# Altium footprint library thermostat.PcbLib: 112 footprints (part 1 of 7)
Each footprint in its own frame and in the unit in brackets; x right, y up, seen from the top. Pads: shape width x height; smd on the part's side, far side on the other; paste and mask are expansions set on the pad; w line width, h text height; cw(c..) or ccw(c..) is an arc to the next point about the centre after c.
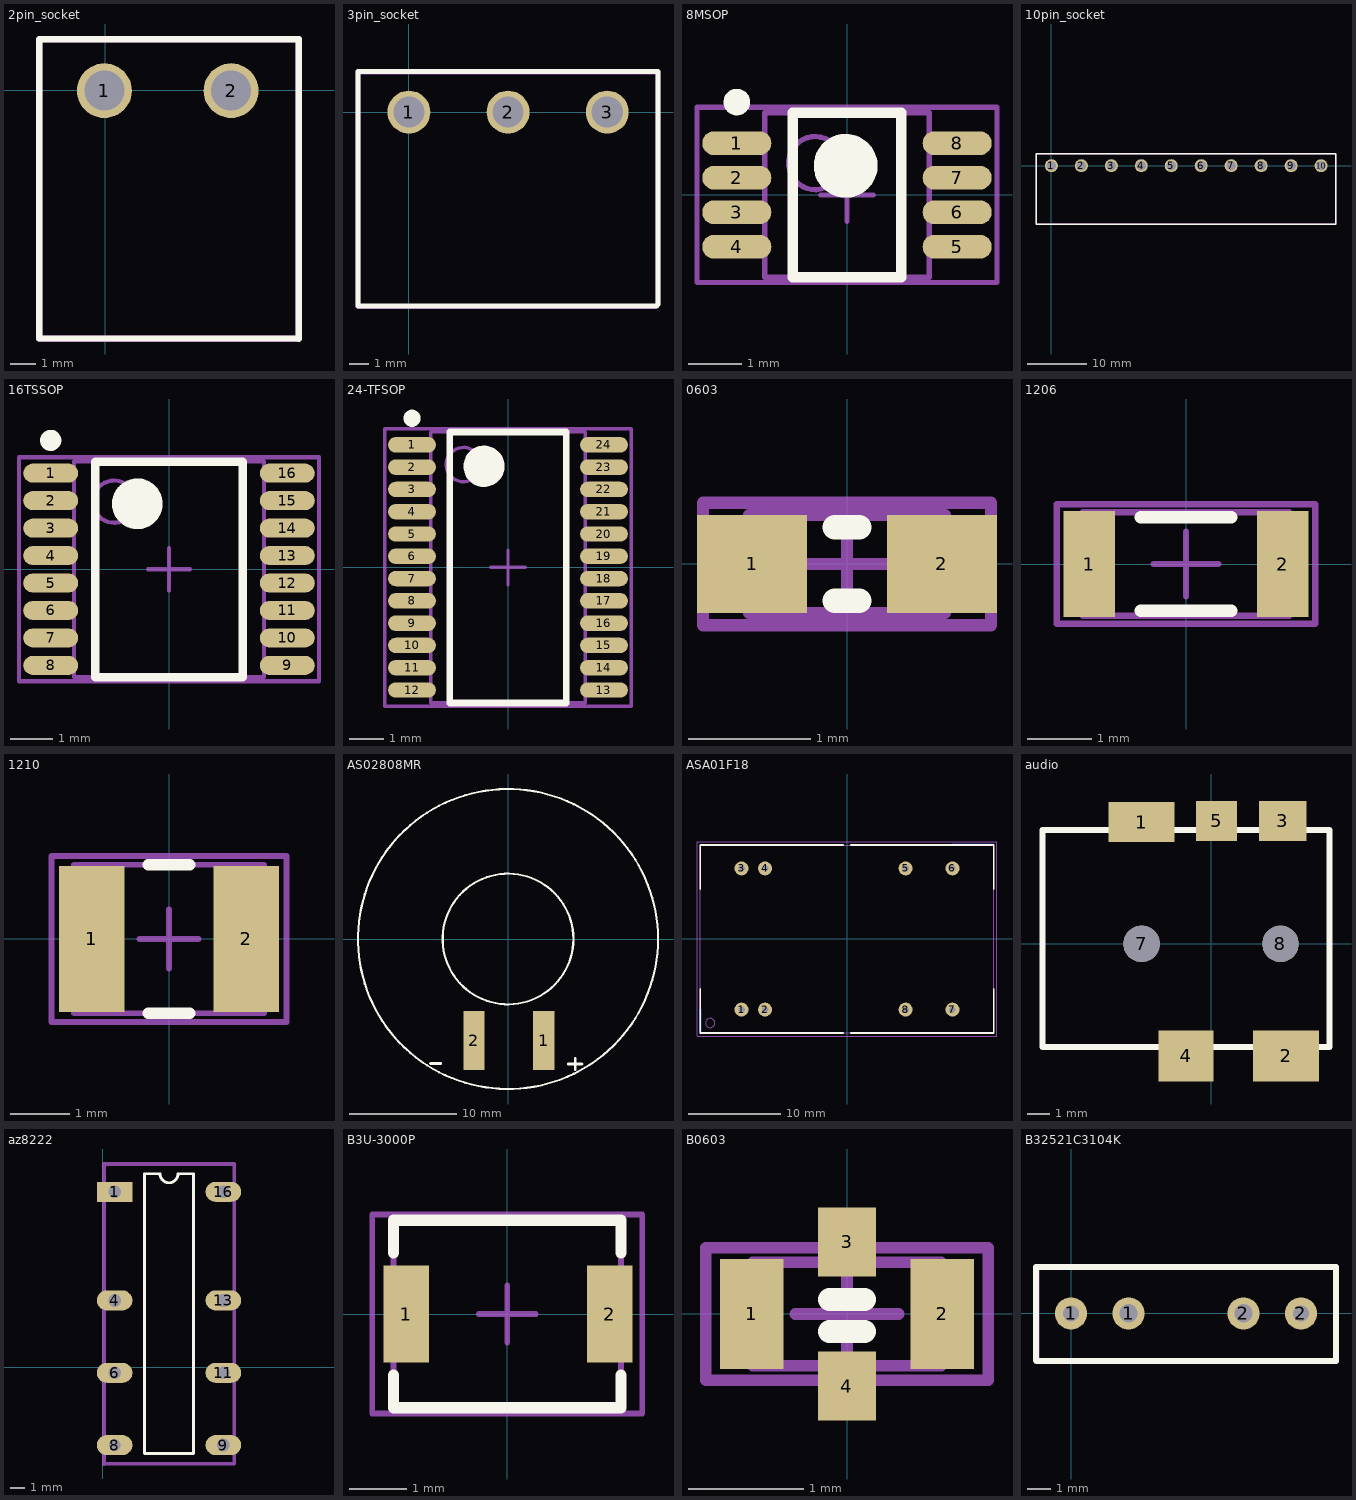
[diagram p0: the footprints below, top view; thin cyan lines are the x and y axes]

## 2pin_socket [mm] "therminal blocks header"
height 8.1
pads (2):
  round 2.2 hole 1.6: 1(-0.04,-0.02) 2(5.04,-0.02)
Top Overlay:
  lines w0.254: -2.64,2.05 -2.65,2.04 ; 7.74,-9.98 7.75,-9.97 7.75,2.05 ; 7.74,-9.96 -2.65,-9.96 -2.65,2.04 ; 7.74,2.04 -2.65,2.04
Mechanical 1:
  lines w0.254: -2.65,2.04 -0.04,2.04 7.74,2.04 7.75,2.03 7.75,-9.97 -2.65,-9.97 -2.65,2.05
3D body: height 8.1, standoff 0.1, extent -2.65,-9.96 7.686,2.05

## 3pin_socket [mm] "therminal blocks header"
height 8.1
pads (3):
  round 2.2 hole 1.6: 1(0,0) 2(5.08,0) 3(10.16,0)
Top Overlay:
  lines w0.254: -2.61,-9.94 12.68,-9.94 12.75,-9.87 12.75,2.07 -2.6,2.07 -2.61,2.06 -2.61,-9.94
Mechanical 1:
  lines w0.254: -2.61,2.06 0,2.06 12.76,2.06 12.76,-9.83 ; -2.61,2.07 -2.61,-9.95 12.64,-9.95
3D body: height 8.1, standoff 0.1, extent -2.61,-9.94 12.72,2.07

## 8MSOP [mm] "MSOP, 8-Leads, Body 3,1x3,1mm (max), Pitch 0,65mm, IPC High Density"
height 1.1
pads (8):
  oval 1.3x0.45 smd: 1(-2.075,0.975) 2(-2.075,0.325) 3(-2.075,-0.325) 4(-2.075,-0.975) 5(2.075,-0.975) 6(2.075,-0.325) 7(2.075,0.325) 8(2.075,0.975)
Top Overlay:
  circle w0.6: c-0.025,0.55 r0.3
  circle w0.25: c-2.075,1.75 r0.125
  lines w0.2: -1.025,-1.55 1.025,-1.55 1.025,1.55 -1.025,1.55 -1.025,-1.55
Mechanical 13:
  circle w0.1: c-0.6,0.6 r0.5
  lines w0.1: -1.55,-1.55 1.55,-1.55 1.55,1.55 -1.55,1.55 -1.55,-1.55
Mechanical 15:
  lines w0.1: -0.5,0 0.5,0 ; 0,-0.5 0,0.5 ; -2.825,-1.65 2.825,-1.65 2.825,1.65 -2.825,1.65 -2.825,-1.65
3D body: height 1.1, standoff 0.1, extent -1.55,-1.55 1.55,1.55

## 10pin_socket [mm] "therminal blocks header"
height 8.1
pads (10):
  round 2.2 hole 1.6: 1(0,0) 2(5.08,0) 3(10.16,0) 4(15.24,0) 5(20.32,0) 6(25.4,0) 7(30.48,0) 8(35.56,0) 9(40.64,0) 10(45.72,0)
Top Overlay:
  lines w0.254: -2.61,-9.94 -2.61,2.06 -2.6,2.07 48.23,2.07 48.25,2.05 48.25,-9.92 48.23,-9.94 -2.61,-9.94
Mechanical 1:
  lines w0.254: -2.61,2.06 0,2.06 48.25,2.06 48.25,-9.96 ; -2.61,2.07 -2.61,-9.95 48.24,-9.95
3D body: height 8.1, standoff 0.1, extent -2.61,-9.94 48.23,2.07

## 16TSSOP [mm]
height 1.2
pads (16):
  oval 1.3x0.45 smd: 1(-2.8,2.275) 2(-2.8,1.625) 3(-2.8,0.975) 4(-2.8,0.325) 5(-2.8,-0.325) 6(-2.8,-0.975) 7(-2.8,-1.625) 8(-2.8,-2.275) 9(2.8,-2.275) 10(2.8,-1.625) 11(2.8,-0.975) 12(2.8,-0.325) 13(2.8,0.325) 14(2.8,0.975) 15(2.8,1.625) 16(2.8,2.275)
Top Overlay:
  circle w0.25: c-2.8,3.05 r0.125
  circle w0.6: c-0.75,1.55 r0.3
  lines w0.2: -1.75,-2.55 -1.75,2.55 1.75,2.55 1.75,-2.55 -1.75,-2.55
Mechanical 13:
  circle w0.1: c-1.3,1.6 r0.5
  lines w0.1: -2.25,-2.55 -2.25,2.55 2.25,2.55 2.25,-2.55 -2.25,-2.55
Mechanical 15:
  lines w0.1: -0.5,0 0.5,0 ; 0,-0.5 0,0.5 ; -3.55,-2.65 -3.55,2.65 3.55,2.65 3.55,-2.65 -3.55,-2.65
3D body: height 1.2, standoff 0.2, extent -2.25,-2.55 2.25,2.55

## 24-TFSOP [mm]
height 1.2
pads (24):
  oval 1.4x0.45 smd: 1(-2.8,3.575) 2(-2.8,2.925) 3(-2.8,2.275) 4(-2.8,1.625) 5(-2.8,0.975) 6(-2.8,0.325) 7(-2.8,-0.325) 8(-2.8,-0.975) 9(-2.8,-1.625) 10(-2.8,-2.275) 11(-2.8,-2.925) 12(-2.8,-3.575) 13(2.8,-3.575) 14(2.8,-2.925) 15(2.8,-2.275) 16(2.8,-1.625) 17(2.8,-0.975) 18(2.8,-0.325) 19(2.8,0.325) 20(2.8,0.975) 21(2.8,1.625) 22(2.8,2.275) 23(2.8,2.925) 24(2.8,3.575)
Top Overlay:
  circle w0.6: c-0.7,2.95 r0.3
  circle w0.25: c-2.8,4.35 r0.125
  lines w0.2: -1.7,-3.95 1.7,-3.95 1.7,3.95 -1.7,3.95 -1.7,-3.95
Mechanical 13:
  circle w0.1: c-1.3,3 r0.5
  lines w0.1: -2.25,-3.95 2.25,-3.95 2.25,3.95 -2.25,3.95 -2.25,-3.95
Mechanical 15:
  lines w0.1: -0.5,0 0.5,0 ; 0,-0.5 0,0.5 ; -3.6,-4.05 3.6,-4.05 3.6,4.05 -3.6,4.05 -3.6,-4.05
3D body: height 1.2, standoff 0.2, extent -2.25,-3.95 2.25,3.95

## 0603 [mm] "0603, 2-Leads, Body 1,6x0,8mm, IPC High Density"
height 0.5
pads (2):
  rect 0.9x0.8 smd: 1(-0.775,0) 2(0.775,0)
Top Overlay:
  lines w0.2: -0.1,-0.3 0.1,-0.3 ; -0.1,0.3 0.1,0.3
Mechanical 13:
  lines w0.1: -0.8,-0.4 -0.8,0.4 0.8,0.4 0.8,-0.4 -0.8,-0.4
Mechanical 15:
  lines w0.1: -0.4,0 0.4,0 ; 0,-0.4 0,0.4 ; -1.175,-0.5 -1.175,0.5 1.175,0.5 1.175,-0.5 -1.175,-0.5
3D body: height 0.5, standoff 0, extent -0.8,-0.4 0.8,0.4

## 1206 [mm] "1206, 2-Leads, Body 3,2x1,6mm, IPC High Density"
height 0.5
pads (2):
  rect 0.8x1.65 smd: 1(-1.5,0) 2(1.5,0)
Top Overlay:
  lines w0.2: -0.7,-0.725 0.7,-0.725 ; -0.7,0.725 0.7,0.725
Mechanical 13:
  lines w0.1: -1.6,-0.8 -1.6,0.8 1.6,0.8 1.6,-0.8 -1.6,-0.8
Mechanical 15:
  lines w0.1: -0.5,0 0.5,0 ; 0,-0.5 0,0.5 ; -2,-0.925 -2,0.925 2,0.925 2,-0.925 -2,-0.925
3D body: height 0.5, standoff 0, extent -1.6,-0.8 1.6,0.8

## 1210 [mm]
height 1.6
pads (2):
  rect 1.1x2.45 smd: 1(-1.3,0) 2(1.3,0)
Top Overlay:
  lines w0.2: -0.35,-1.25 0.35,-1.25 ; -0.35,1.25 0.35,1.25
Mechanical 13:
  lines w0.1: -1.6,-1.25 -1.6,1.25 1.6,1.25 1.6,-1.25 -1.6,-1.25
Mechanical 15:
  lines w0.1: -0.5,0 0.5,0 ; 0,-0.5 0,0.5 ; -1.975,-1.4 -1.975,1.4 1.975,1.4 1.975,-1.4 -1.975,-1.4
3D body: height 1.6, standoff 0, extent -1.6,-1.25 1.6,1.25

## AS02808MR [mm] "SPEAKER 8OHM 1W 80DB 28MM"
height 5.2
pads (2):
  rect 2x5.5 smd: 1(3.325,-9.475) 2(-3.175,-9.475)
Top Overlay:
  circle w0.2: c0,0 r6.1
  circle w0.2: c0,0 r14
  lines w0.254: -7.225,-11.625 -6.275,-11.625 ; 5.625,-11.675 6.9,-11.675 ; 6.275,-12.175 6.275,-11.15

## ASA01F18 [mm]
height 10.16
pads (8):
  round 1.524 hole 0.7: 1(-11.425,-7.65) 2(-8.875,-7.65) 3(-11.425,7.65) 4(-8.875,7.65) 5(6.35,7.65) 6(11.425,7.65) 7(11.425,-7.65) 8(6.35,-7.65)
Bottom Layer:
  lines w0.254: -15.9,-10.2 -15.9,-7.65 ; 11.425,10.2 15.875,10.2
Top Overlay:
  lines w0.2: -15.9,-5.425 -15.9,-10.2 -0.425,-10.2 ; -15.9,5.425 -15.9,10.2 -0.425,10.2 ; 0.425,-10.2 15.9,-10.2 15.9,-5.425 ; 0.425,10.2 15.9,10.2 15.9,5.425
Mechanical 13:
  circle w0.1: c-14.825,-9.1 r0.5
  lines w0.1: -15.875,-10.16 15.875,-10.16 15.875,10.16 -15.875,10.16 -15.875,-10.16
Mechanical 15:
  lines w0.1: -16.25,-10.55 16.25,-10.55 16.25,10.55 -16.25,10.55 -16.25,-10.55
3D body: height 10.16, standoff 0.1, extent -15.875,-10.16 15.875,10.16

## audio [mm] "CONN JACK STEREO 3POS 3.5MM SMD"
height 5
pads (7):
  rect 2.9x1.75 smd: 1(-3.05,5.35)
  rect 2.9x2.25 smd: 2(3.3,-4.925)
  rect 2.1x1.75 smd: 3(3.15,5.4)
  rect 2.4x2.25 smd: 4(-1.1,-4.925)
  rect 1.8x1.75 smd: 5(0.25,5.4)
  round 1.6 hole 1.6: 7(-3.05,0) 8(3.05,0)
Top Overlay:
  lines w0.254: -7.4,-4.525 -3.05,-4.525 5.2,-4.525 5.2,0 5.2,4.975 ; -7.4,-4.5 -7.4,0 -7.4,4.975 ; -7.4,5 -3.05,5 ; -1.125,-4.525 3.275,-4.525 ; 3.15,5 0.25,5 ; 5.2,5 -3.05,5 ; -3.05,5 0.25,5 ; -3.05,5 0.25,5 ; 0.25,5 0.25,5
3D body: height 5, standoff 0, extent -7.275,-4.4 5.075,4.875

## az8222 [mm] "DPDT relay"
height 11.5
pads (8):
  rect 2.5x1.4 hole 0.9: 1(0.85,12.3)
  oval 2.5x1.4 hole 0.9: 4(0.85,4.68) 6(0.85,-0.4) 9(8.47,-5.475) 11(8.47,-0.4) 13(8.47,4.68) 16(8.47,12.3)
  oval 2.5x1.4 hole 0.8: 8(0.85,-5.475)
Top Overlay:
  lines w0.2: 2.935,-6.075 2.935,13.57 4.025,13.57 ccw(c4.66,13.57) 5.295,13.57 6.385,13.57 6.385,-6.075 2.935,-6.075
Mechanical 15:
  lines w0.254: 0.1,-6.8 0.1,14.25 9.25,14.25 9.25,-6.775 ; 0.1,-6.78 9.225,-6.78
3D body: height 11.5, standoff 0.1, extent 0.1,-6.75 9.25,14.25

## B3U-3000P [mm] "Button, 2-Leads, Body 4,0x3,2mm, IPC High Density"
height 1.2
pads (2):
  rect 0.8x1.7 smd: 1(-1.775,0) 2(1.8,0)
Top Overlay:
  lines w0.2: -2,-1.075 -2,-1.65 2,-1.65 2,-1.075 ; -2,1.075 -2,1.65 2,1.65 2,1.075
Mechanical 13:
  lines w0.1: -2,-1.6 -2,1.6 2,1.6 2,-1.6 -2,-1.6
Mechanical 15:
  lines w0.1: -0.5,0 0.5,0 ; 0,-0.5 0,0.5 ; -2.375,-1.75 -2.375,1.75 2.375,1.75 2.375,-1.75 -2.375,-1.75
3D body: height 1.2, standoff 0, extent -2,-1.6 2,1.6

## B0603 [mm]
height 0.6
pads (4):
  rect 0.55x0.95 smd: 1(-0.825,0) 2(0.825,0)
  rect 0.5x0.6 smd: 3(0,0.625) 4(0,-0.625)
Top Overlay:
  lines w0.2: -0.15,-0.15 0.15,-0.15 ; -0.15,0.125 0.15,0.125
Mechanical 13:
  lines w0.1: -0.815,-0.45 0.815,-0.45 0.815,0.45 -0.815,0.45 -0.815,-0.45
Mechanical 15:
  lines w0.1: -0.45,0 0.45,0 ; 0,-0.45 0,0.45 ; -1.225,-0.575 1.225,-0.575 1.225,0.575 -1.225,0.575 -1.225,-0.575
3D body: height 0.6, standoff 0, extent -0.815,-0.45 0.815,0.45

## B32521C3104K [mm] "CAP FILM 0.1UF 250VDC RADIAL"
height 7
pads (4):
  round 1.4 hole 0.7: 1(0,0) 2(10,0)
  round 1.4 hole 0.8: 1(2.5,0) 2(7.5,0)
Top Overlay:
  lines w0.254: -1.525,-2.05 -1.5,-2.075 11.525,-2.075 11.525,2.025 -1.525,2.025 -1.525,-2.05
Mechanical 15:
  lines w0.254: 11.525,-0.05 11.525,-2.075 0,-2.075 -1.5,-2.075 -1.5,-0.025 -1.5,2.025 0,2.025 11.525,2.025 11.525,0
3D body: height 7, standoff 0.1, extent -1.525,-2.05 11.55,2.025